# EAGLE library part USB-MICRO-B (library USB-Micro-B-2.0)
USB-MICRO-B
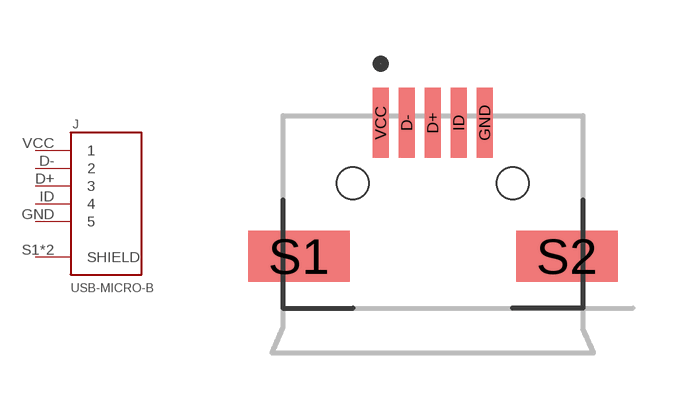
[diagram p4: symbol with the pads of USB-MICRO-B; footprint USB-MICRO-B]

Designator prefix J

## USB-MICRO-B  [USB-MICRO-B]
D+  3  pas
D-  2  pas
GND  5  pas
ID  4  pas
S1  SHIELD  pas
S2  SHIELD  pas
VCC  1  pas

## Footprint USB-MICRO-B (pad centres in mm)
USB-MICRO-B
smd 0.4 x 1.75: D+ 0,2.927; D- -0.65,2.927; GND 1.3,2.927; ID 0.65,2.927; VCC -1.3,2.927
smd 2.54 x 1.27: S1 -3.35,-0.405; S2 3.35,-0.405
hole 0.8 at -2,1.42
hole 0.8 at 2,1.42